# EAGLE library part ENCODER-SWITCH (library MySparkFun-Switches)
Rotary Encoder w/ Select Switch Encoders rotate similarly to potentiometers, but they’re different from potentiometers in that an encoder has full rotation without limits. They output gray code so that you can tell how much and in which direction the encoder has been turned. This encoder includes a push-down select switch built into the shaft. SparkFun Products Rotary Encoder <https://www.sparkfun.com/products/9117> (COM-09117)
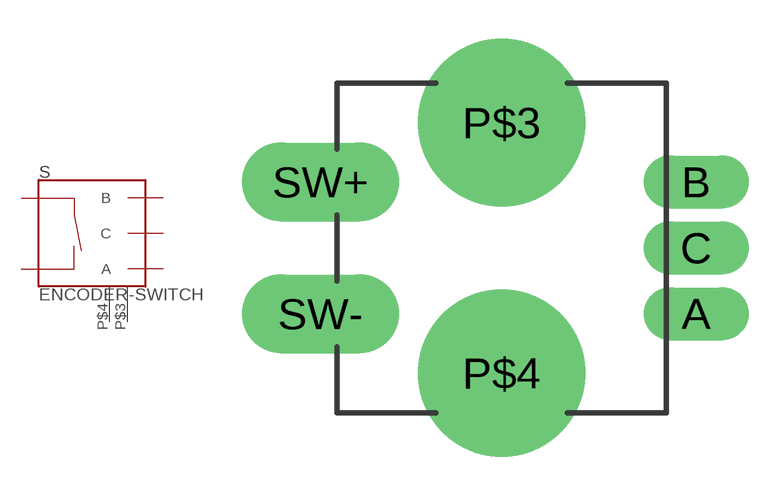
[diagram p11: symbol with the pads of ROTARY_ENC_PLAIN; footprint ROTARY_ENC_PLAIN]

Designator prefix S

## ENCODER-SWITCH (SF_SKU: COM-09117)  [ROTARY_ENC_PLAIN]
A  A
B  B
C  C
P$3  GND1
P$4  GND2
SW+  SW+
SW-  SW-

## Footprint ROTARY_ENC_PLAIN (pad centres in mm)
Rotary Encoder w/ Select Switch Encoders rotate similarly to potentiometers, but they’re different from potentiometers in that an encoder has full rotation without limits. They output gray code so that you can tell how much and in which direction the encoder has been turned. This encoder includes a push-down select switch built into the shaft. Datasheet <http://www.sparkfun.com/datasheets/Components/TW-700198.pdf>
drill 1.016 pad 2.032 long: A 7.493,-2.54; B 7.493,2.54; C 7.493,0
drill 2.286 pad 6.452: P$3 0,4.826; P$4 0,-4.826
drill 1.016 pad 3.048 long: SW+ -6.985,2.54; SW- -6.985,-2.54